# EAGLE library part RD-03D-RADAR_PCB_MOUNT (library NewsPoet)
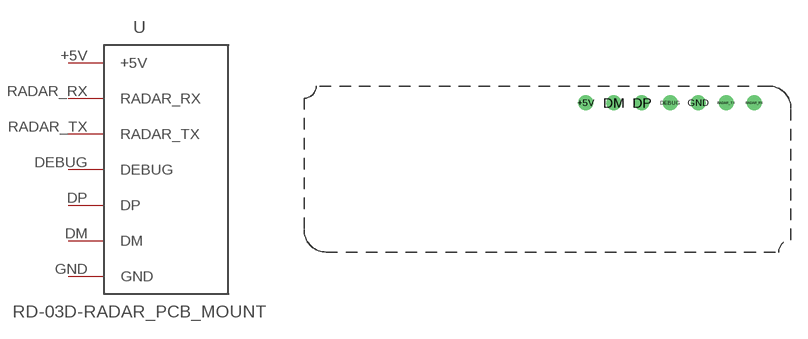
[diagram p1: symbol with the pads of RD-03D-RADAR_PCB_MOUNT; footprint RD-03D-RADAR_PCB_MOUNT]

Designator prefix -

## RD-03D-RADAR_PCB_MOUNT  [RD-03D-RADAR_PCB_MOUNT]
+5V  +5V
DEBUG  DEBUG
DM  DM
DP  DP
GND  GND
RADAR_RX  RADAR_RX
RADAR_TX  RADAR_TX

## Footprint RD-03D-RADAR_PCB_MOUNT (pad centres in mm)
drill 0.85: +5V 0,5.08; DEBUG 7.62,5.08; DM 2.54,5.08; DP 5.08,5.08; GND 10.16,5.08; RADAR_RX 15.24,5.08; RADAR_TX 12.7,5.08